# EAGLE library part PH2X3 (library omcConnector)
PH2X3 - Two column pinheader with three terminals per side Pole: 6 Column: 2 Pitch: 1.27mm, 2.54mm Technology: THT
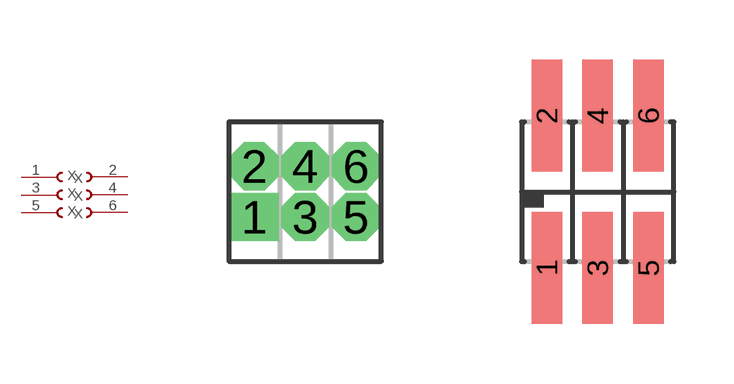
[diagram p4: symbol with the pads of STL21-03G-1.27; footprints STL21-03G-1.27, PH3M03-2-1.27]

Designator prefix X; gates G$1=PHDL G$2=PHDR G$3=PHDL G$4=PHDR G$5=PHDL G$6=PHDR

## PH2X3-THT1.27 (#MULTIPLIER_REICHELT: 3/10; #VENDOR: MPE GARRY,176-2-006-0-F-XS0; DIST#REICHELT#: SL 2X10G 1,27; VALUE: PH2X3)  [STL21-03G-1.27]
1  G$1:P$1
2  G$2:P$1
3  G$3:P$1
4  G$4:P$1
5  G$5:P$1
6  G$6:P$1

## PH2X3-SMD1.27 (#MULTIPLIER_REICHELT: 3/10; DIST#REICHELT#: SL 2X10G SMD1,27; VALUE: PH2X3)  [PH3M03-2-1.27]
Pads as for STL21-03G-1.27

## Footprint STL21-03G-1.27 (pad centres in mm)
STL21-03G - Pin Header 1,27 mm Series 176 - 2X3 MPE-Garry Productside <http://www.mpegarry.de/index.php?lang=en&menu=16&s_product=STL21&product_group[]=5&s_parameter[1]=46&s_parameter[16]=6&action=Search&id_product=1762> Reichelt Datasheet <http://cdn-reichelt.de/documents/datenblatt/C140/SL%202X20G%201%2C27.pdf> Technical data: Property Value Gender Male Pitch (mm) 1,27 Mating contact size ☐ 0,40 Board termination Through hole Orientation to PCB Vertical No of contacts 6, 8, 10, 12, 14, ... 80 No of rows 2 Row distance (mm) 1,27 Polarising No Locking No Material contact Copper alloy Material insulator High temp. thermoplast UL94V-0 Rated current 1,0 A Rated voltage 100 VRMS / VDC Withstand voltage 300 VRMS for 1 minute Operating temperature -40°C to +105°C Max. processing temperature 260°C for 10 seconds Packaging Standard
drill 0.7 pad 1.016 square: 1 0,0
drill 0.7 pad 1.016 octagon: 2 0,1.27; 3 1.27,0; 4 1.27,1.27; 5 2.54,0; 6 2.54,1.27

## Footprint PH3M03-2-1.27 (pad centres in mm)
PH3M3 - Pin Header 1,27 mm Reichelt Datasheet <http://cdn-reichelt.de/documents/datenblatt/C140/SL2XxxGSMD127.pdf> derived from 10P variant
smd 0.762 x 2.794: 1 -1.27,-1.905; 2 -1.27,1.905; 3 0,-1.905; 4 0,1.905; 5 1.27,-1.905; 6 1.27,1.905